# Altium footprint library NIR.PcbLib: 3 footprints
Each footprint in its own frame and in the unit in brackets; x right, y up, seen from the top. Pads: shape width x height; smd on the part's side, far side on the other; paste and mask are expansions set on the pad; w line width, h text height; cw(c..) or ccw(c..) is an arc to the next point about the centre after c.
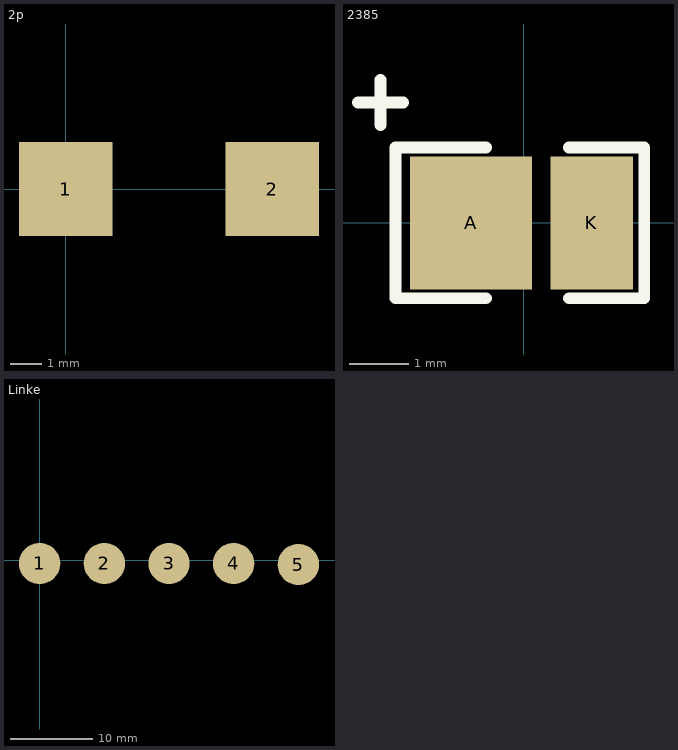
[diagram p0: the footprints below, top view; thin cyan lines are the x and y axes]

## 2p [mm]
pads (2):
  rect 3x3 smd: 1(0,0) 2(6.604,0)

## 2385 [mm]
pads (2):
  rect 2.06x2.24 smd: A(-0.889,0)
  rect 1.39x2.24 smd: K(1.143,0)
Top Overlay:
  lines w0.2: -2.794,2.032 -2.032,2.032 ; -2.413,1.651 -2.413,2.413 ; -0.635,-1.27 -2.159,-1.27 -2.159,1.27 -1.397,1.27 -0.635,1.27 ; 0.762,-1.27 2.032,-1.27 2.032,1.27 0.762,1.27

## Linke [mm]
pads (5):
  round 5 smd: 1(0,-0.381) 2(7.823,-0.381) 3(15.646,-0.381) 4(23.47,-0.381) 5(31.293,-0.508)